# Altium footprint library frames.PCBLIB: 27 footprints (part 2 of 2)
Each footprint in its own frame and in the unit in brackets; x right, y up, seen from the top. Pads: shape width x height; smd on the part's side, far side on the other; paste and mask are expansions set on the pad; w line width, h text height; cw(c..) or ccw(c..) is an arc to the next point about the centre after c.
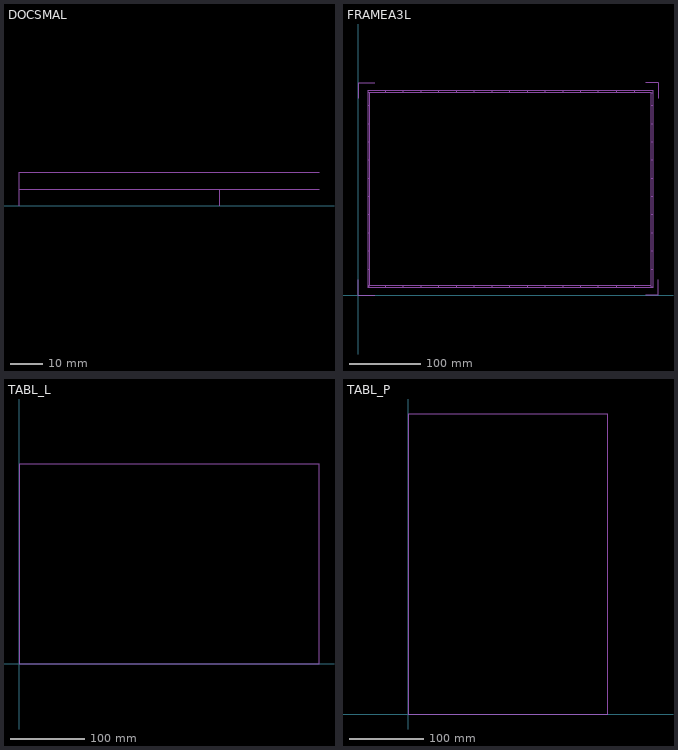
[diagram p1: the footprints below, top view; thin cyan lines are the x and y axes]

## DOCSMAL [mm]
Mechanical 13:
  lines w0.254: 88.9,0 88.9,5.08 ; 149.86,0 149.86,5.08 ; 180.34,5.08 149.86,5.08 ; 180.34,10.16 88.9,10.16 88.9,5.08 ; 88.9,5.08 149.86,5.08
  text "Date:" at 90.17,6.35 h2.16
  text ">LAST_DATE_TIME" at 101.6,6.35 h2.16
  text "TITLE:" at 90.17,1.27 h2.16
  text ">DRAWING_NAME" at 106.68,1.27 h2.16

## FRAME_A_L [mm]

## FRAME_B_L [mm]

## FRAME_C_L [mm]

## FRAME_D_L [mm]

## FRAME_E_L [mm]

## FRAMEA3L [mm]
Mechanical 13:
  lines w0: 0,21.59 0,0 23.495,0 ; 0,275.59 0,297.18 23.495,297.18 ; 401.955,0 419.1,0 419.1,21.59 ; 401.955,297.18 419.1,297.18 419.1,275.59
  lines w0.203: 13.335,36.83 15.875,36.83 ; 13.335,62.23 15.875,62.23 ; 13.335,87.63 15.875,87.63 ; 13.335,113.03 15.875,113.03 ; 13.335,138.43 15.875,138.43 ; 13.335,163.83 15.875,163.83 ; 13.335,189.23 15.875,189.23 ; 13.335,214.63 15.875,214.63 ; 13.335,240.03 15.875,240.03 ; 13.335,265.43 15.875,265.43 ; 38.735,11.43 38.735,13.97 ; 38.735,283.21 38.735,285.75 ; 63.5,11.43 63.5,13.97 ; 63.5,283.21 63.5,285.75 ; 88.265,11.43 88.265,13.97 ; 88.265,283.21 88.265,285.75 ; 113.03,11.43 113.03,13.97 ; 113.03,283.21 113.03,285.75 ; 137.795,11.43 137.795,13.97 ; 137.795,283.21 137.795,285.75 ; 162.56,11.43 162.56,13.97 ; 162.56,283.21 162.56,285.75 ; 187.325,11.43 187.325,13.97 ; 187.325,283.21 187.325,285.75 ; 212.09,11.43 212.09,13.97 ; 212.09,283.21 212.09,285.75 ; 236.855,11.43 236.855,13.97 ; 236.855,283.21 236.855,285.75 ; 261.62,11.43 261.62,13.97 ; 261.62,283.21 261.62,285.75 ; 286.385,11.43 286.385,13.97 ; 286.385,283.21 286.385,285.75 ; 311.15,11.43 311.15,13.97 ; 311.15,283.21 311.15,285.75 ; 335.915,11.43 335.915,13.97 ; 335.915,283.21 335.915,285.75 ; 361.315,11.43 361.315,13.97 ; 361.315,283.21 361.315,285.75 ; 386.715,11.43 386.715,13.97 ; 386.715,283.21 386.715,285.75 ; 409.575,36.83 412.115,36.83 ; 409.575,62.23 412.115,62.23 ; 409.575,87.63 412.115,87.63 ; 409.575,113.03 412.115,113.03 ; 409.575,138.43 412.115,138.43 ; 409.575,163.83 412.115,163.83 ; 409.575,189.23 412.115,189.23 ; 409.575,214.63 412.115,214.63 ; 409.575,240.03 412.115,240.03 ; 409.575,265.43 412.115,265.43 ; 13.335,283.21 13.335,285.75 412.115,285.75 412.115,283.21 ; 13.335,283.21 13.335,11.43 15.875,11.43 ; 13.335,283.21 15.875,283.21 ; 15.875,11.43 15.875,13.97 ; 15.875,11.43 412.115,11.43 ; 15.875,13.97 409.575,13.97 ; 15.875,13.97 15.875,283.21 ; 15.875,283.21 409.575,283.21 ; 409.575,13.97 409.575,11.43 412.115,11.43 ; 409.575,13.97 409.575,283.21 ; 409.575,283.21 412.115,283.21 ; 412.115,11.43 412.115,283.21
  text "1" at 26.67,12.065 h1.97
  text "2" at 50.8,12.065 h1.97
  text "3" at 75.565,12.065 h1.97
  text "4" at 100.33,12.065 h1.97
  text "5" at 124.46,12.065 h1.97
  text "6" at 149.86,12.065 h1.97
  text "7" at 175.26,12.065 h1.97
  text "8" at 199.39,12.065 h1.97
  text "9" at 224.155,12.065 h1.97
  text "10" at 248.92,12.065 h1.97
  text "11" at 273.685,12.065 h1.97
  text "12" at 298.45,12.065 h1.97
  text "13" at 322.58,12.065 h1.97
  text "14" at 347.98,12.065 h1.97
  text "15" at 374.015,12.065 h1.97
  text "16" at 398.145,12.065 h1.97
  text "L" at 410.591,24.13 h1.97
  text "K" at 410.591,48.26 h1.97
  text "I" at 410.591,74.168 h1.97
  text "H" at 410.591,100.33 h1.97
  text "G" at 410.591,125.73 h1.97
  text "F" at 410.591,150.368 h1.97
  text "E" at 410.591,175.768 h1.97
  text "D" at 410.591,201.93 h1.97
  text "C" at 410.591,227.33 h1.97
  text "B" at 410.591,252.73 h1.97
  text "A" at 410.591,274.828 h1.97
  text "16" at 398.145,283.845 h1.97
  text "15" at 374.015,283.845 h1.97
  text "14" at 347.98,283.845 h1.97
  text "13" at 322.58,283.845 h1.97
  text "12" at 298.45,283.845 h1.97
  text "11" at 273.685,283.845 h1.97
  text "10" at 248.92,283.845 h1.97
  text "9" at 224.155,283.845 h1.97
  text "8" at 199.39,283.845 h1.97
  text "7" at 175.26,283.845 h1.97
  text "6" at 149.86,283.845 h1.97
  text "5" at 124.46,283.845 h1.97
  text "4" at 100.33,283.845 h1.97
  text "3" at 75.565,283.845 h1.97
  text "2" at 50.8,283.845 h1.97
  text "1" at 26.67,283.845 h1.97
  text "A" at 14.351,274.828 h1.97
  text "B" at 14.351,251.968 h1.97
  text "C" at 14.351,227.33 h1.97
  text "D" at 14.351,201.168 h1.97
  text "E" at 14.351,175.768 h1.97
  text "F" at 14.351,150.368 h1.97
  text "G" at 14.351,124.968 h1.97
  text "H" at 14.351,99.06 h1.97
  text "I" at 14.351,74.168 h1.97
  text "K" at 14.351,49.53 h1.97
  text "L" at 14.351,23.368 h1.97

## LETTER_L [mm]

## LETTER_P [mm]

## TABL_L [mm]
Mechanical 13:
  lines w0.406: 0,0 401.32,0 401.32,266.7 0,266.7 0,0

## TABL_P [mm]
Mechanical 13:
  lines w0.406: 0,0 266.7,0 266.7,401.32 0,401.32 0,0